# EAGLE library part ADS1115-MODULE (library ADS1115 MODULE)
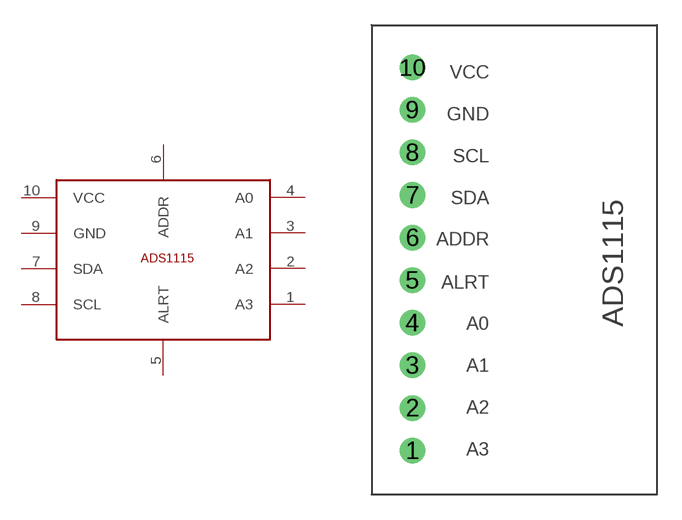
[diagram p0: symbol with the pads of ADS1115-MODULE; footprint ADS1115-MODULE]

Designator prefix -

## ADS1115-MODULE  [ADS1115-MODULE]
1  A3
2  A2
3  A1
4  A0
5  ALRT
6  ADDR
7  SDA
8  SCL
9  GND
10  VCC

## Footprint ADS1115-MODULE (pad centres in mm)
drill 1.016: 1 2.43,2.62; 2 2.43,5.16; 3 2.43,7.7; 4 2.43,10.24; 5 2.43,12.78; 6 2.43,15.32; 7 2.43,17.86; 8 2.43,20.4; 9 2.43,22.94; 10 2.43,25.48